# Altium footprint library Molex Footprints.PcbLib: 498 footprints (part 29 of 32)
Each footprint in its own frame and in the unit in brackets; x right, y up, seen from the top. Pads: shape width x height; smd on the part's side, far side on the other; paste and mask are expansions set on the pad; w line width, h text height; cw(c..) or ccw(c..) is an arc to the next point about the centre after c.
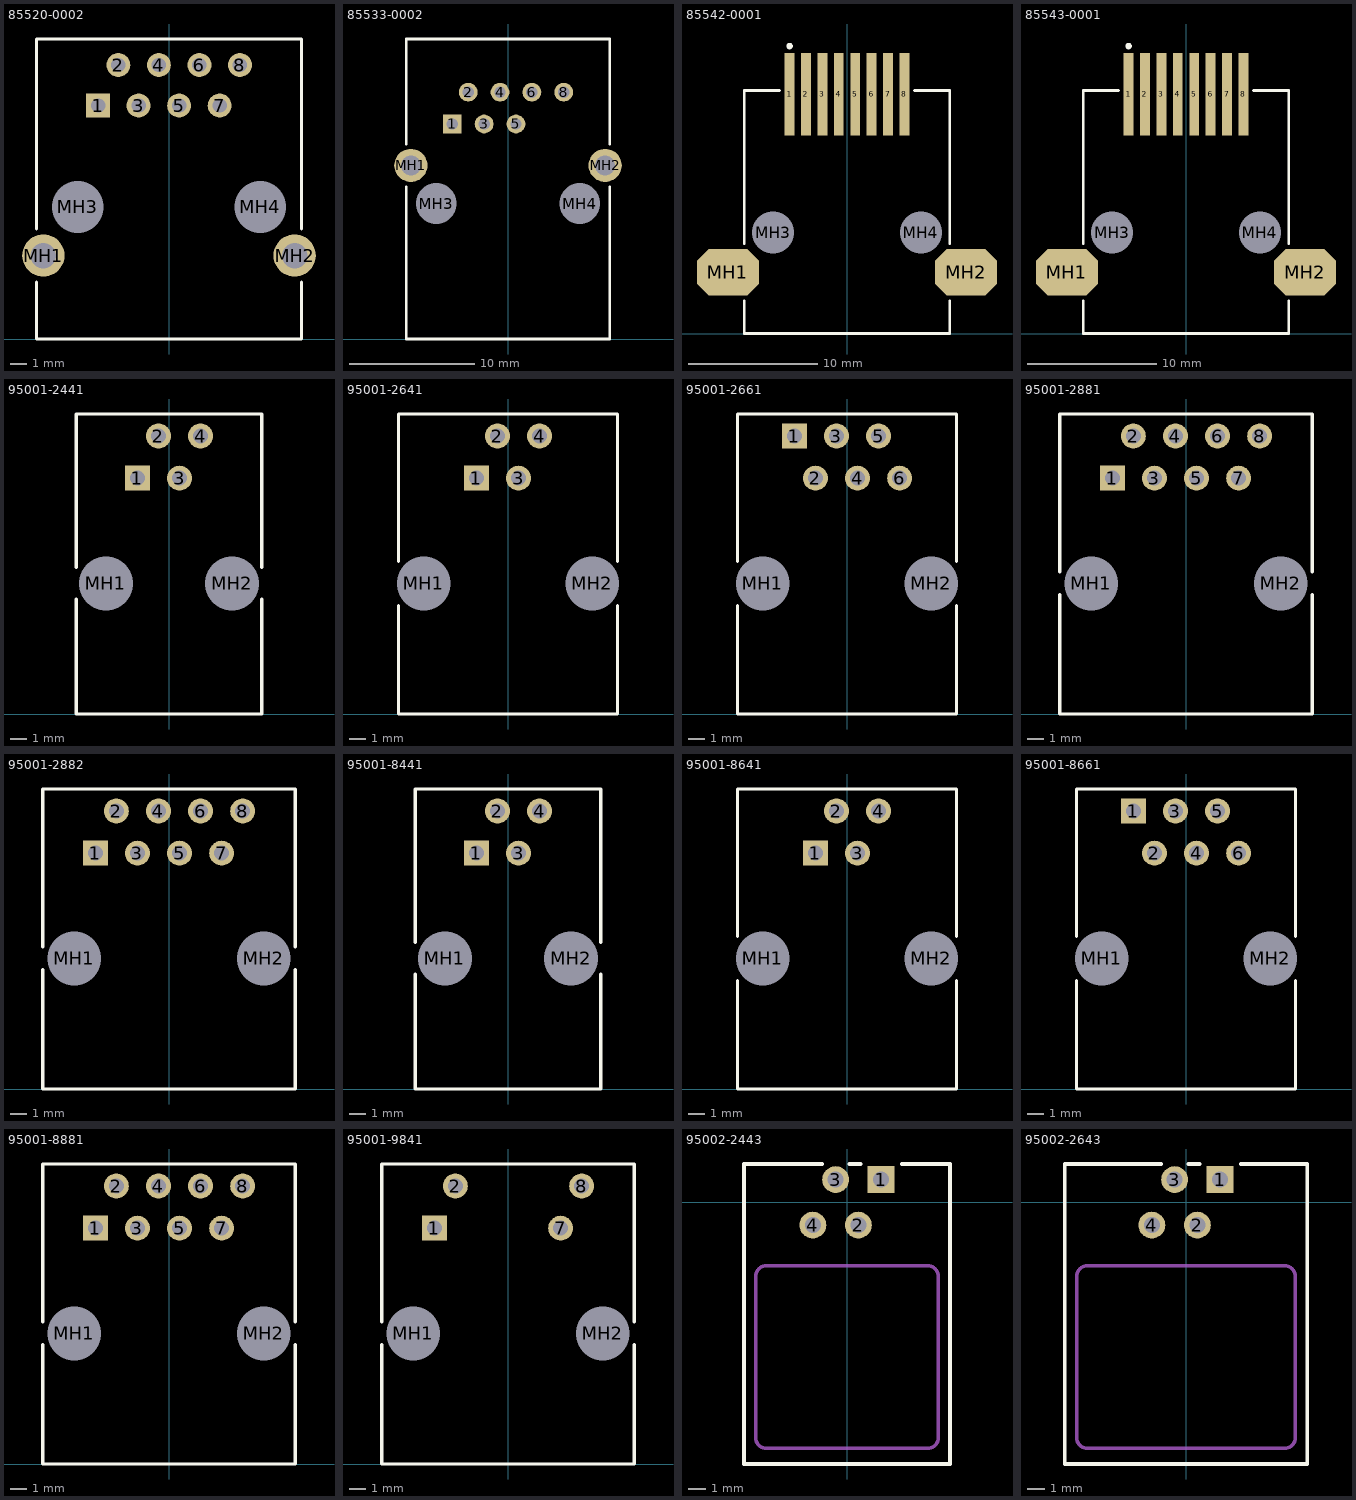
[diagram p28: the footprints below, top view; thin cyan lines are the x and y axes]

## 85520-0002 [mm] "Connector; PCB Jack, Thru-Hole; 1-Port, 8 Positions, 8 Loaded; Shielded without Lightpipes; Right Angle"
height 12.7
pads (12):
  rect 1.5x1.5 hole 0.9: 1(-4.445,14.63)
  round 1.5 hole 0.9: 2(-3.175,17.17) 3(-1.905,14.63) 4(-0.635,17.17) 5(0.635,14.63) 6(1.905,17.17) 7(3.175,14.63) 8(4.445,17.17)
  round 2.65 hole 1.6: MH1(-7.875,5.23) MH2(7.875,5.23)
  round 2.95 hole 3.25 unplated: MH3(-5.715,8.28) MH4(5.715,8.28)
Top Overlay:
  lines w0.2: -8.3,3.558 -8.3,0 8.3,0 8.3,3.558 ; -8.3,6.902 -8.3,18.8 8.3,18.8 8.3,6.902

## 85533-0002 [mm] "Connector; PCB Jack, Thru-Hole; 1-Port, 8 Positions, 8 Loaded; Shielded without Lightpipes; Right Angle"
height 13.6
pads (11):
  rect 1.5x1.5 hole 0.9: 1(-4.445,17.15)
  round 1.5 hole 0.9: 2(-3.175,19.69) 3(-1.905,17.15) 4(-0.635,19.69) 5(0.635,17.15) 6(1.905,19.69) 8(4.445,19.69)
  round 2.65 hole 1.6: MH1(-7.75,13.85) MH2(7.75,13.85)
  round 2.95 hole 3.25 unplated: MH3(-5.715,10.8) MH4(5.715,10.8)
Top Overlay:
  lines w0.2: -8.1,12.161 -8.1,0 8.1,0 8.1,12.161 ; -8.1,15.539 -8.1,23.93 8.1,23.93 8.1,15.539

## 85542-0001 [mm] "Connector; PCB Jack, SM; 1-Port, 8 Positions, 8 Loaded; Shielded without Lightpipes; Right Angle"
height 14.15
pads (12):
  rect 0.76x6.35 smd: 1(-4.445,18.515) 2(-3.175,18.515) 3(-1.905,18.515) 4(-0.635,18.515) 5(0.635,18.515) 6(1.905,18.515) 7(3.175,18.515) 8(4.445,18.515)
  oct 4.79x3.6 smd: MH1(-9.21,4.74) MH2(9.21,4.74)
  round 2.95 hole 3.25 unplated: MH3(-5.715,7.8) MH4(5.715,7.8)
Top Overlay:
  circle w0.25: c-4.445,22.24 r0.125
  lines w0.2: -7.95,2.54 -7.95,0 7.95,0 7.95,2.54 ; -7.95,6.94 -7.95,18.8 -5.225,18.8 ; 5.225,18.8 7.95,18.8 7.95,6.94

## 85543-0001 [mm] "Connector; PCB Jack, SM; 1-Port, 8 Positions, 8 Loaded; Shielded without Lightpipes; Right Angle"
height 13.25
pads (12):
  rect 0.76x6.35 smd: 1(-4.445,18.515) 2(-3.175,18.515) 3(-1.905,18.515) 4(-0.635,18.515) 5(0.635,18.515) 6(1.905,18.515) 7(3.175,18.515) 8(4.445,18.515)
  oct 4.79x3.6 smd: MH1(-9.21,4.74) MH2(9.21,4.74)
  round 2.95 hole 3.25 unplated: MH3(-5.715,7.8) MH4(5.715,7.8)
Top Overlay:
  circle w0.25: c-4.445,22.24 r0.125
  lines w0.2: -7.95,2.54 -7.95,0 7.95,0 7.95,2.54 ; -7.95,6.94 -7.95,18.8 -5.225,18.8 ; 5.225,18.8 7.95,18.8 7.95,6.94

## 95001-2441 [mm] "Connector; PCB Jack, Thru-Hole; 1-Port, 4 Positions, 4 Loaded; Unshielded without Lightpipes; Right Angle"
height 11.65
pads (6):
  rect 1.5x1.5 hole 0.9: 1(-1.905,14.23)
  round 1.5 hole 0.9: 2(-0.635,16.77) 3(0.635,14.23) 4(1.905,16.77)
  round 2.95 hole 3.25 unplated: MH1(-3.81,7.88) MH2(3.81,7.88)
Top Overlay:
  lines w0.2: -5.59,6.914 -5.59,0 5.59,0 5.59,6.914 ; -5.59,8.846 -5.59,18.1 5.59,18.1 5.59,8.846

## 95001-2641 [mm] "Connector; PCB Jack, Thru-Hole; 1-Port, 6 Positions, 4 Loaded; Unshielded without Lightpipes; Right Angle"
height 11.65
pads (6):
  rect 1.5x1.5 hole 0.9: 1(-1.905,14.23)
  round 1.5 hole 0.9: 2(-0.635,16.77) 3(0.635,14.23) 4(1.905,16.77)
  round 2.95 hole 3.25 unplated: MH1(-5.08,7.88) MH2(5.08,7.88)
Top Overlay:
  lines w0.2: -6.605,6.548 -6.605,0 6.605,0 6.605,6.548 ; -6.605,9.212 -6.605,18.1 6.605,18.1 6.605,9.212

## 95001-2661 [mm] "Connector; PCB Jack, Thru-Hole; 1-Port, 6 Positions, 6 Loaded; Unshielded without Lightpipes; Right Angle"
height 11.65
pads (8):
  rect 1.5x1.5 hole 0.9: 1(-3.175,16.77)
  round 1.5 hole 0.9: 2(-1.905,14.23) 3(-0.635,16.77) 4(0.635,14.23) 5(1.905,16.77) 6(3.175,14.23)
  round 2.95 hole 3.25 unplated: MH1(-5.08,7.88) MH2(5.08,7.88)
Top Overlay:
  lines w0.2: -6.605,6.548 -6.605,0 6.605,0 6.605,6.548 ; -6.605,9.212 -6.605,18.1 6.605,18.1 6.605,9.212

## 95001-2881 [mm] "Connector; PCB Jack, Thru-Hole; 1-Port, 8 Positions, 8 Loaded; Unshielded without Lightpipes; Right Angle"
height 11.65
pads (10):
  rect 1.5x1.5 hole 0.9: 1(-4.445,14.23)
  round 1.5 hole 0.9: 2(-3.175,16.77) 3(-1.905,14.23) 4(-0.635,16.77) 5(0.635,14.23) 6(1.905,16.77) 7(3.175,14.23) 8(4.445,16.77)
  round 2.95 hole 3.25 unplated: MH1(-5.715,7.88) MH2(5.715,7.88)
Top Overlay:
  lines w0.2: -7.62,7.193 -7.62,0 7.62,0 7.62,7.193 ; -7.62,8.567 -7.62,18.1 7.62,18.1 7.62,8.567

## 95001-2882 [mm] "Connector; PCB Jack, Thru-Hole; 1-Port, 8 Positions, 8 Loaded; Unshielded without Lightpipes; Right Angle"
height 11.65
pads (10):
  rect 1.5x1.5 hole 0.9: 1(-4.445,14.23)
  round 1.5 hole 0.9: 2(-3.175,16.77) 3(-1.905,14.23) 4(-0.635,16.77) 5(0.635,14.23) 6(1.905,16.77) 7(3.175,14.23) 8(4.445,16.77)
  round 2.95 hole 3.25 unplated: MH1(-5.715,7.88) MH2(5.715,7.88)
Top Overlay:
  lines w0.2: -7.62,7.193 -7.62,0 7.62,0 7.62,7.193 ; -7.62,8.567 -7.62,18.1 7.62,18.1 7.62,8.567

## 95001-8441 [mm] "Connector; PCB Jack, Thru-Hole; 1-Port, 4 Positions, 4 Loaded; Unshielded without Lightpipes; Right Angle"
height 11.65
pads (6):
  rect 1.5x1.5 hole 0.9: 1(-1.905,14.23)
  round 1.5 hole 0.9: 2(-0.635,16.77) 3(0.635,14.23) 4(1.905,16.77)
  round 2.95 hole 3.25 unplated: MH1(-3.81,7.88) MH2(3.81,7.88)
Top Overlay:
  lines w0.2: -5.59,6.914 -5.59,0 5.59,0 5.59,6.914 ; -5.59,8.846 -5.59,18.1 5.59,18.1 5.59,8.846

## 95001-8641 [mm] "Connector; PCB Jack, Thru-Hole; 1-Port, 6 Positions, 4 Loaded; Unshielded without Lightpipes; Right Angle"
height 11.65
pads (6):
  rect 1.5x1.5 hole 0.9: 1(-1.905,14.23)
  round 1.5 hole 0.9: 2(-0.635,16.77) 3(0.635,14.23) 4(1.905,16.77)
  round 2.95 hole 3.25 unplated: MH1(-5.08,7.88) MH2(5.08,7.88)
Top Overlay:
  lines w0.2: -6.605,6.548 -6.605,0 6.605,0 6.605,6.548 ; -6.605,9.212 -6.605,18.1 6.605,18.1 6.605,9.212

## 95001-8661 [mm] "Connector; PCB Jack, Thru-Hole; 1-Port, 6 Positions, 6 Loaded; Unshielded without Lightpipes; Right Angle"
height 11.65
pads (8):
  rect 1.5x1.5 hole 0.9: 1(-3.175,16.77)
  round 1.5 hole 0.9: 2(-1.905,14.23) 3(-0.635,16.77) 4(0.635,14.23) 5(1.905,16.77) 6(3.175,14.23)
  round 2.95 hole 3.25 unplated: MH1(-5.08,7.88) MH2(5.08,7.88)
Top Overlay:
  lines w0.2: -6.605,6.548 -6.605,0 6.605,0 6.605,6.548 ; -6.605,9.212 -6.605,18.1 6.605,18.1 6.605,9.212

## 95001-8881 [mm] "Connector; PCB Jack, Thru-Hole; 1-Port, 8 Positions, 8 Loaded; Unshielded without Lightpipes; Right Angle"
height 11.65
pads (10):
  rect 1.5x1.5 hole 0.9: 1(-4.445,14.23)
  round 1.5 hole 0.9: 2(-3.175,16.77) 3(-1.905,14.23) 4(-0.635,16.77) 5(0.635,14.23) 6(1.905,16.77) 7(3.175,14.23) 8(4.445,16.77)
  round 2.95 hole 3.25 unplated: MH1(-5.715,7.88) MH2(5.715,7.88)
Top Overlay:
  lines w0.2: -7.62,7.193 -7.62,0 7.62,0 7.62,7.193 ; -7.62,8.567 -7.62,18.1 7.62,18.1 7.62,8.567

## 95001-9841 [mm] "Connector; PCB Jack, Thru-Hole; 1-Port, 8 Positions, 4 Loaded; Unshielded without Lightpipes; Right Angle"
height 11.65
pads (6):
  rect 1.5x1.5 hole 0.9: 1(-4.445,14.23)
  round 1.5 hole 0.9: 2(-3.175,16.77) 7(3.175,14.23) 8(4.445,16.77)
  round 2.95 hole 3.25 unplated: MH1(-5.715,7.88) MH2(5.715,7.88)
Top Overlay:
  lines w0.2: -7.62,7.193 -7.62,0 7.62,0 7.62,7.193 ; -7.62,8.567 -7.62,18.1 7.62,18.1 7.62,8.567

## 95002-2443 [mm] "Connector; PCB Jack, Thru-Hole; 1-Port, 4 Positions, 4 Loaded; Unshielded without Lightpipes; Bottom"
height 12.71
pads (4):
  rect 1.5x1.5 hole 0.9: 1(1.905,1.27)
  round 1.5 hole 0.9: 2(0.635,-1.27) 3(-0.635,1.27) 4(-1.905,-1.27)
Top Overlay:
  lines w0.2: -1.387,2.14 -5.75,2.14 -5.75,-14.61 5.75,-14.61 5.75,2.14 3.055,2.14 ; 0.117,2.14 0.755,2.14
Mechanical 1:
  lines w0.2: -5.1,-13.14 ccw(c-4.5,-13.14) -4.5,-13.74 4.5,-13.74 ccw(c4.5,-13.14) 5.1,-13.14 5.1,-4.14 ccw(c4.5,-4.14) 4.5,-3.54 -4.5,-3.54 ccw(c-4.5,-4.14) -5.1,-4.14 -5.1,-13.14
  text "Assign" at -4.5,-6.14 h1.4
  text "Keepout" at -4.5,-8.14 h1.4
  text "Area to" at -4.5,-10.14 h1.4
  text "Cut-out" at -4.5,-12.14 h1.4

## 95002-2643 [mm] "Connector; PCB Jack, Thru-Hole; 1-Port, 6 Positions, 4 Loaded; Unshielded without Lightpipes; Bottom"
height 12.71
pads (4):
  rect 1.5x1.5 hole 0.9: 1(1.905,1.27)
  round 1.5 hole 0.9: 2(0.635,-1.27) 3(-0.635,1.27) 4(-1.905,-1.27)
Top Overlay:
  lines w0.2: -1.387,2.14 -6.775,2.14 -6.775,-14.61 6.775,-14.61 6.775,2.14 3.055,2.14 ; 0.117,2.14 0.755,2.14
Mechanical 1:
  lines w0.2: -6.1,-13.14 ccw(c-5.5,-13.14) -5.5,-13.74 5.5,-13.74 ccw(c5.5,-13.14) 6.1,-13.14 6.1,-4.14 ccw(c5.5,-4.14) 5.5,-3.54 -5.5,-3.54 ccw(c-5.5,-4.14) -6.1,-4.14 -6.1,-13.14
  text "Assign" at -5,-6.14 h1.5
  text "Keepout" at -5,-8.14 h1.5
  text "Area to" at -5,-10.14 h1.5
  text "Cut-out" at -5,-12.14 h1.5